# Altium schematic symbol library TRIAC.SchLib: 1 symbol
Pins are listed as number, name and electrical type; pins without a type are passive.

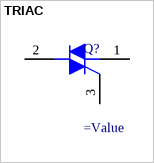
[diagram p0: symbol TRIAC]

## TRIAC
designator Q?
=Description
pins: 1 T1, 2 T2, 3 G